# Altium footprint library PcbLib1.PcbLib: 1 footprints
Each footprint in its own frame and in the unit in brackets; x right, y up, seen from the top. Pads: shape width x height; smd on the part's side, far side on the other; paste and mask are expansions set on the pad; w line width, h text height; cw(c..) or ccw(c..) is an arc to the next point about the centre after c.
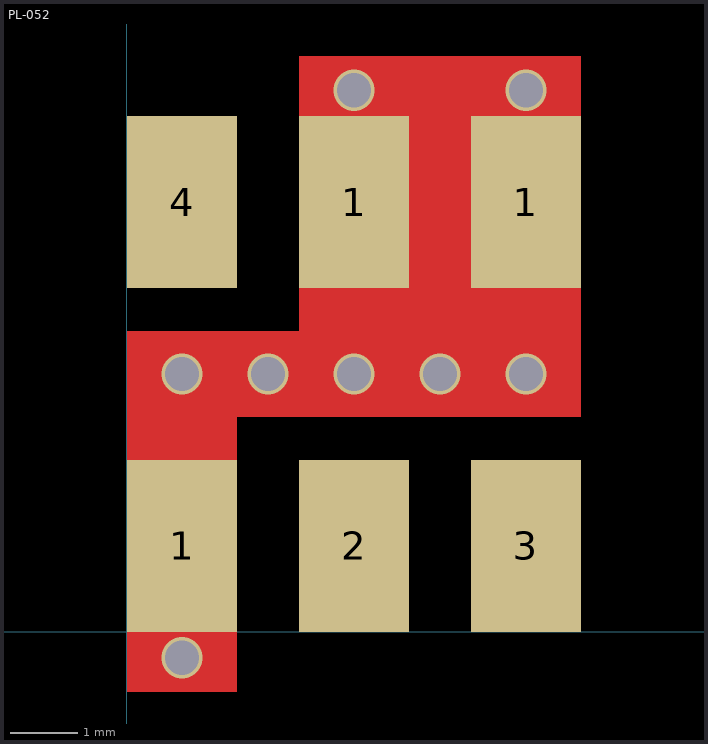
[diagram p0: the footprint, top view; thin cyan lines are the x and y axes]

## PL-052 [mil]
pads (6):
  rect 64x100 smd: 1(32,50) 1(132,250) 1(232,250) 2(132,50) 3(232,50) 4(32,250)
via 32,-15 diameter 24 hole 20
via 232,315 diameter 24 hole 20
via 132,315 diameter 24 hole 20
via 232,150 diameter 24 hole 20
via 182,150 diameter 24 hole 20
via 82,150 diameter 24 hole 20
via 132,150 diameter 24 hole 20
via 32,150 diameter 24 hole 20
Top Layer:
  rectangle: 0,-35 64,175
  rectangle: 0,125 264,175
  rectangle: 100,170 264,335